# Altium integrated library Diode - Rectifier.IntLib: 777 symbols (part 8 of 12)
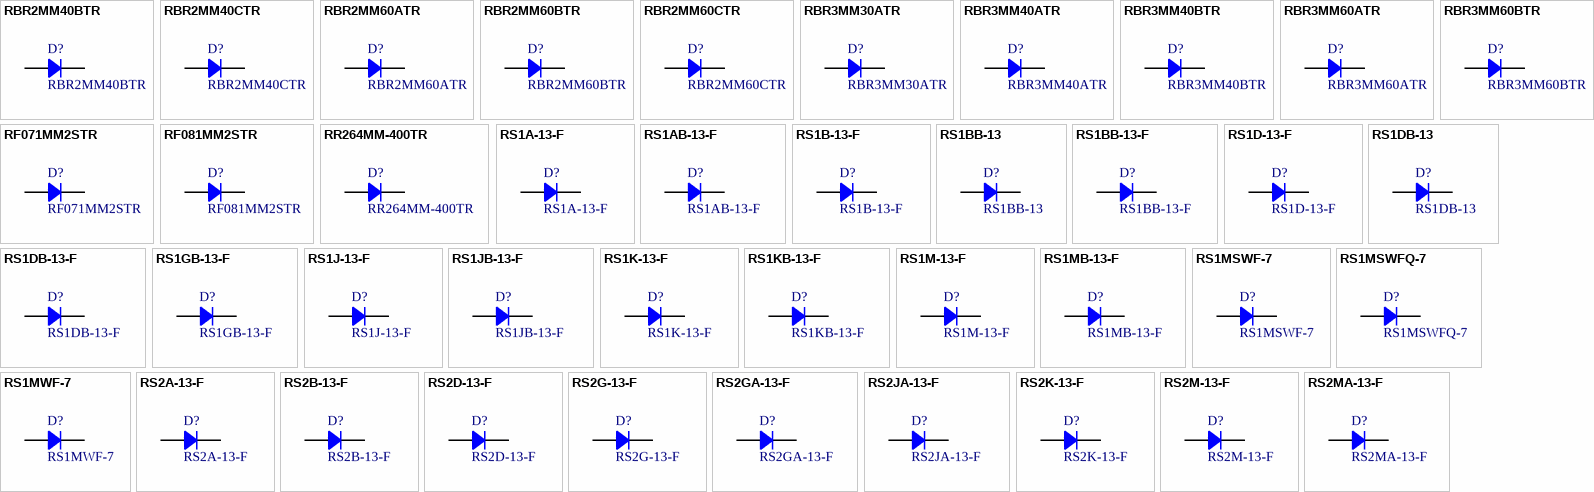
[diagram p26: symbols RBR2MM40BTR to RS2MA-13-F]

## RS1A-13-F
designator D?
DIODE GEN PURP 50V 1A SMA; Manufacturer: Diodes Incorporated; Type: Standard; Current Reverse Leakage @ Vr: 5uA @ 50V; Reverse Recovery Time (trr): 150ns; Voltage Forward (Vf): 1.3V @ 1A; Part Number: RS1A-13-F; PartId: 16347; Supplier 1: Digi-Key; Supplier Part Number 1: RS1A-FDITR-ND; ComponentLink1Description: Datasheet; ComponentLink1URL: http://www.diodes.com/_files/datasheets/ds15002.pdf; ComponentLink2Description: Digi-Key Listing; ComponentLink2URL: https://www.digikey.com/product-detail/en/diodes-incorporated/RS1A-13-F/RS1A-FDITR-ND/751523; Junction Operating Temperature: -65C ~ 150C; Price: 0.072; Device Package: DO-214AC, SMA; Voltage DC Reverse (Vr): 50V; Current Rectified: 1A
footprint DO214AC SMA
pins: 1, 2

## RS1AB-13-F
designator D?
DIODE GEN PURP 50V 1A SMB; Manufacturer: Diodes Incorporated; Type: Standard; Current Reverse Leakage @ Vr: 5uA @ 50V; Reverse Recovery Time (trr): 150ns; Voltage Forward (Vf): 1.3V @ 1A; Part Number: RS1AB-13-F; PartId: 16274; Supplier 1: Digi-Key; Supplier Part Number 1: RS1AB-FDITR-ND; ComponentLink1Description: Datasheet; ComponentLink1URL: http://www.diodes.com/_files/datasheets/ds15002.pdf; ComponentLink2Description: Digi-Key Listing; ComponentLink2URL: https://www.digikey.com/product-detail/en/diodes-incorporated/RS1AB-13-F/RS1AB-FDITR-ND/814456; Junction Operating Temperature: -65C ~ 150C; Price: 0.0864; Device Package: DO-214AA, SMB; Voltage DC Reverse (Vr): 50V; Current Rectified: 1A
footprint DO214AA SMB
pins: 1, 2

## RS1B-13-F
designator D?
DIODE GEN PURP 100V 1A SMA; Manufacturer: Diodes Incorporated; Type: Standard; Current Reverse Leakage @ Vr: 5uA @ 100V; Reverse Recovery Time (trr): 150ns; Voltage Forward (Vf): 1.3V @ 1A; Part Number: RS1B-13-F; PartId: 16320; Supplier 1: Digi-Key; Supplier Part Number 1: RS1B-FDITR-ND; ComponentLink1Description: Datasheet; ComponentLink1URL: http://www.diodes.com/_files/datasheets/ds15002.pdf; ComponentLink2Description: Digi-Key Listing; ComponentLink2URL: https://www.digikey.com/product-detail/en/diodes-incorporated/RS1B-13-F/RS1B-FDITR-ND/717796; Junction Operating Temperature: -65C ~ 150C; Price: 0.072; Device Package: DO-214AC, SMA; Voltage DC Reverse (Vr): 100V; Current Rectified: 1A
footprint DO214AC SMA
pins: 1, 2

## RS1BB-13
designator D?
DIODE GEN PURP 100V 1A SMB; Manufacturer: Diodes Incorporated; Type: Standard; Current Reverse Leakage @ Vr: 5uA @ 100V; Reverse Recovery Time (trr): 150ns; Voltage Forward (Vf): 1.3V @ 1A; Part Number: RS1BB-13; PartId: 16310; Supplier 1: Digi-Key; Supplier Part Number 1: 981-RS1BB-13-CHP; ComponentLink1Description: Datasheet; ComponentLink1URL: //media.digikey.com/pdf/Data%20Sheets/Diodes%20PDFs/RS1.pdf; ComponentLink2Description: Digi-Key Listing; ComponentLink2URL: https://www.digikey.com/product-detail/en/diodes-incorporated/RS1BB-13/981-RS1BB-13-CHP/2348233; Junction Operating Temperature: -65C ~ 150C; Price: 0.1262; Device Package: DO-214AA, SMB; Voltage DC Reverse (Vr): 100V; Current Rectified: 1A
footprint DO214AA SMB
pins: 1, 2

## RS1BB-13-F
designator D?
DIODE GEN PURP 100V 1A SMB; Manufacturer: Diodes Incorporated; Type: Standard; Current Reverse Leakage @ Vr: 5uA @ 100V; Reverse Recovery Time (trr): 150ns; Voltage Forward (Vf): 1.3V @ 1A; Part Number: RS1BB-13-F; PartId: 16286; Supplier 1: Digi-Key; Supplier Part Number 1: RS1BB-FDITR-ND; ComponentLink1Description: Datasheet; ComponentLink1URL: http://www.diodes.com/_files/datasheets/ds15002.pdf; ComponentLink2Description: Digi-Key Listing; ComponentLink2URL: https://www.digikey.com/product-detail/en/diodes-incorporated/RS1BB-13-F/RS1BB-FDITR-ND/814460; Junction Operating Temperature: -65C ~ 150C; Price: 0.1402; Device Package: DO-214AA, SMB; Voltage DC Reverse (Vr): 100V; Current Rectified: 1A
footprint DO214AA SMB
pins: 1, 2

## RS1D-13-F
designator D?
DIODE GEN PURP 200V 1A SMA; Manufacturer: Diodes Incorporated; Type: Standard; Current Reverse Leakage @ Vr: 5uA @ 200V; Reverse Recovery Time (trr): 150ns; Voltage Forward (Vf): 1.3V @ 1A; Part Number: RS1D-13-F; PartId: 16322; Supplier 1: Digi-Key; Supplier Part Number 1: RS1D-FDITR-ND; ComponentLink1Description: Datasheet; ComponentLink1URL: http://www.diodes.com/_files/datasheets/ds15002.pdf; ComponentLink2Description: Digi-Key Listing; ComponentLink2URL: https://www.digikey.com/product-detail/en/diodes-incorporated/RS1D-13-F/RS1D-FDITR-ND/775844; Junction Operating Temperature: -65C ~ 150C; Price: 0.0743; Device Package: DO-214AC, SMA; Voltage DC Reverse (Vr): 200V; Current Rectified: 1A
footprint DO214AC SMA
pins: 1, 2

## RS1DB-13
designator D?
DIODE GEN PURP 200V 1A SMB; Manufacturer: Diodes Incorporated; Type: Standard; Current Reverse Leakage @ Vr: 5uA @ 200V; Reverse Recovery Time (trr): 150ns; Voltage Forward (Vf): 1.3V @ 1A; Part Number: RS1DB-13; PartId: 16311; Supplier 1: Digi-Key; Supplier Part Number 1: 981-RS1DB-13-CHP; ComponentLink1Description: Datasheet; ComponentLink1URL: //media.digikey.com/pdf/Data%20Sheets/Diodes%20PDFs/RS1.pdf; ComponentLink2Description: Digi-Key Listing; ComponentLink2URL: https://www.digikey.com/product-detail/en/diodes-incorporated/RS1DB-13/981-RS1DB-13-CHP/2344483; Junction Operating Temperature: -65C ~ 150C; Price: 0.1395; Device Package: DO-214AA, SMB; Voltage DC Reverse (Vr): 200V; Current Rectified: 1A
footprint DO214AA SMB
pins: 1, 2

## RS1DB-13-F
designator D?
DIODE GEN PURP 200V 1A SMB; Manufacturer: Diodes Incorporated; Type: Standard; Current Reverse Leakage @ Vr: 5uA @ 200V; Reverse Recovery Time (trr): 150ns; Voltage Forward (Vf): 1.3V @ 1A; Part Number: RS1DB-13-F; PartId: 16240; Supplier 1: Digi-Key; Supplier Part Number 1: RS1DB-FDITR-ND; ComponentLink1Description: Datasheet; ComponentLink1URL: http://www.diodes.com/_files/datasheets/ds15002.pdf; ComponentLink2Description: Digi-Key Listing; ComponentLink2URL: https://www.digikey.com/product-detail/en/diodes-incorporated/RS1DB-13-F/RS1DB-FDITR-ND/814459; Junction Operating Temperature: -65C ~ 150C; Price: 0.0882; Device Package: DO-214AA, SMB; Voltage DC Reverse (Vr): 200V; Current Rectified: 1A
footprint DO214AA SMB
pins: 1, 2

## RS1GB-13-F
designator D?
DIODE GEN PURP 400V 1A SMB; Manufacturer: Diodes Incorporated; Type: Standard; Current Reverse Leakage @ Vr: 5uA @ 400V; Reverse Recovery Time (trr): 150ns; Voltage Forward (Vf): 1.3V @ 1A; Part Number: RS1GB-13-F; PartId: 16277; Supplier 1: Digi-Key; Supplier Part Number 1: RS1GB-FDITR-ND; ComponentLink1Description: Datasheet; ComponentLink1URL: http://www.diodes.com/_files/datasheets/ds15002.pdf; ComponentLink2Description: Digi-Key Listing; ComponentLink2URL: https://www.digikey.com/product-detail/en/diodes-incorporated/RS1GB-13-F/RS1GB-FDITR-ND/765419; Junction Operating Temperature: -65C ~ 150C; Price: 0.0936; Device Package: DO-214AA, SMB; Voltage DC Reverse (Vr): 400V; Current Rectified: 1A
footprint DO214AA SMB
pins: 1, 2

## RS1J-13-F
designator D?
DIODE GEN PURP 600V 1A SMA; Manufacturer: Diodes Incorporated; Type: Standard; Current Reverse Leakage @ Vr: 5uA @ 600V; Reverse Recovery Time (trr): 250ns; Voltage Forward (Vf): 1.3V @ 1A; Part Number: RS1J-13-F; PartId: 16321; Supplier 1: Digi-Key; Supplier Part Number 1: RS1J-FDITR-ND; ComponentLink1Description: Datasheet; ComponentLink1URL: http://www.diodes.com/_files/datasheets/ds15002.pdf; ComponentLink2Description: Digi-Key Listing; ComponentLink2URL: https://www.digikey.com/product-detail/en/diodes-incorporated/RS1J-13-F/RS1J-FDITR-ND/749974; Junction Operating Temperature: -65C ~ 150C; Price: 0.072; Device Package: DO-214AC, SMA; Voltage DC Reverse (Vr): 600V; Current Rectified: 1A
footprint DO214AC SMA
pins: 1, 2

## RS1JB-13-F
designator D?
DIODE GEN PURP 600V 1A SMB; Manufacturer: Diodes Incorporated; Type: Standard; Current Reverse Leakage @ Vr: 5uA @ 600V; Reverse Recovery Time (trr): 250ns; Voltage Forward (Vf): 1.3V @ 1A; Part Number: RS1JB-13-F; PartId: 16276; Supplier 1: Digi-Key; Supplier Part Number 1: RS1JB-FDITR-ND; ComponentLink1Description: Datasheet; ComponentLink1URL: http://www.diodes.com/_files/datasheets/ds15002.pdf; ComponentLink2Description: Digi-Key Listing; ComponentLink2URL: https://www.digikey.com/product-detail/en/diodes-incorporated/RS1JB-13-F/RS1JB-FDITR-ND/814458; Junction Operating Temperature: -65C ~ 150C; Price: 0.0936; Device Package: DO-214AA, SMB; Voltage DC Reverse (Vr): 600V; Current Rectified: 1A
footprint DO214AA SMB
pins: 1, 2

## RS1K-13-F
designator D?
DIODE GEN PURP 800V 1A SMA; Manufacturer: Diodes Incorporated; Type: Standard; Current Reverse Leakage @ Vr: 5uA @ 800V; Reverse Recovery Time (trr): 500ns; Voltage Forward (Vf): 1.3V @ 1A; Part Number: RS1K-13-F; PartId: 16354; Supplier 1: Digi-Key; Supplier Part Number 1: RS1K-FDITR-ND; ComponentLink1Description: Datasheet; ComponentLink1URL: http://www.diodes.com/_files/datasheets/ds15002.pdf; ComponentLink2Description: Digi-Key Listing; ComponentLink2URL: https://www.digikey.com/product-detail/en/diodes-incorporated/RS1K-13-F/RS1K-FDITR-ND/749975; Junction Operating Temperature: -65C ~ 150C; Price: 0.0935; Device Package: DO-214AC, SMA; Voltage DC Reverse (Vr): 800V; Current Rectified: 1A
footprint DO214AC SMA
pins: 1, 2

## RS1KB-13-F
designator D?
DIODE GEN PURP 800V 1A SMB; Manufacturer: Diodes Incorporated; Type: Standard; Current Reverse Leakage @ Vr: 5uA @ 800V; Reverse Recovery Time (trr): 500ns; Voltage Forward (Vf): 1.3V @ 1A; Part Number: RS1KB-13-F; PartId: 16300; Supplier 1: Digi-Key; Supplier Part Number 1: RS1KB-FDITR-ND; ComponentLink1Description: Datasheet; ComponentLink1URL: http://www.diodes.com/_files/datasheets/ds15002.pdf; ComponentLink2Description: Digi-Key Listing; ComponentLink2URL: https://www.digikey.com/product-detail/en/diodes-incorporated/RS1KB-13-F/RS1KB-FDITR-ND/814457; Junction Operating Temperature: -65C ~ 150C; Price: 0.1039; Device Package: DO-214AA, SMB; Voltage DC Reverse (Vr): 800V; Current Rectified: 1A
footprint DO214AA SMB
pins: 1, 2

## RS1M-13-F
designator D?
DIODE GEN PURP 1KV 1A SMA; Manufacturer: Diodes Incorporated; Type: Standard; Current Reverse Leakage @ Vr: 5uA @ 1000V; Reverse Recovery Time (trr): 500ns; Voltage DC Reverse (Vr): 1000V (1kV); Voltage Forward (Vf): 1.3V @ 1A; Part Number: RS1M-13-F; PartId: 16326; Supplier 1: Digi-Key; Supplier Part Number 1: RS1M-FDITR-ND; ComponentLink1Description: Datasheet; ComponentLink1URL: http://www.diodes.com/_files/datasheets/ds15002.pdf; ComponentLink2Description: Digi-Key Listing; ComponentLink2URL: https://www.digikey.com/product-detail/en/diodes-incorporated/RS1M-13-F/RS1M-FDITR-ND/775742; Junction Operating Temperature: -65C ~ 150C; Price: 0.0935; Device Package: DO-214AC, SMA; Current Rectified: 1A
footprint DO214AC SMA
pins: 1, 2

## RS1MB-13-F
designator D?
DIODE GEN PURP 1KV 1A SMB; Manufacturer: Diodes Incorporated; Type: Standard; Current Reverse Leakage @ Vr: 5uA @ 1000V; Reverse Recovery Time (trr): 500ns; Voltage DC Reverse (Vr): 1000V (1kV); Voltage Forward (Vf): 1.3V @ 1A; Part Number: RS1MB-13-F; PartId: 16246; Supplier 1: Digi-Key; Supplier Part Number 1: RS1MB-FDITR-ND; ComponentLink1Description: Datasheet; ComponentLink1URL: http://www.diodes.com/_files/datasheets/ds15002.pdf; ComponentLink2Description: Digi-Key Listing; ComponentLink2URL: https://www.digikey.com/product-detail/en/diodes-incorporated/RS1MB-13-F/RS1MB-FDITR-ND/724960; Junction Operating Temperature: -65C ~ 150C; Price: 0.1155; Device Package: DO-214AA, SMB; Current Rectified: 1A
footprint DO214AA SMB
pins: 1, 2

## RS1MSWF-7
designator D?
DIODE RECT STD 1000V 1A SOD123F; Manufacturer: Diodes Incorporated; Type: Standard; Current Reverse Leakage @ Vr: 10uA @ 1000V; Reverse Recovery Time (trr): 500ns; Voltage DC Reverse (Vr): 1000V (1kV); Voltage Forward (Vf): 1.3V @ 1A; Part Number: RS1MSWF-7; PartId: 29274; Supplier 1: Digi-Key; Supplier Part Number 1: RS1MSWF-7DICT-ND; ComponentLink1Description: Datasheet; ComponentLink1URL: http://www.diodes.com/_files/datasheets/RS1MSWF.pdf; ComponentLink2Description: Digi-Key Listing; ComponentLink2URL: https://www.digikey.com/product-detail/en/diodes-incorporated/RS1MSWF-7/RS1MSWF-7DICT-ND/5731845; Junction Operating Temperature: -55C ~ 150C; Price: 0.4; Device Package: SOD-123F; Current Rectified: 1A
footprint SOD123F
pins: 1, 2

## RS1MSWFQ-7
designator D?
DIODE REC FAS 1000V 1A SOD123F; Manufacturer: Diodes Incorporated; Type: Standard; Current Reverse Leakage @ Vr: 10uA @ 1000V; Reverse Recovery Time (trr): 500ns; Voltage DC Reverse (Vr): 1000V (1kV); Voltage Forward (Vf): 1.3V @ 1A; Part Number: RS1MSWFQ-7; PartId: 29246; Supplier 1: Digi-Key; Supplier Part Number 1: RS1MSWFQ-7DICT-ND; ComponentLink1Description: Datasheet; ComponentLink1URL: http://www.diodes.com/_files/datasheets/RS1MSWFQ.pdf; ComponentLink2Description: Digi-Key Listing; ComponentLink2URL: https://www.digikey.com/product-detail/en/diodes-incorporated/RS1MSWFQ-7/RS1MSWFQ-7DICT-ND/5731846; Junction Operating Temperature: -55C ~ 150C; Price: 0.37; Device Package: SOD-123F; Current Rectified: 1A
footprint SOD123F
pins: 1, 2

## RS1MWF-7
designator D?
RECT FAST REC 1000V 1A SOD123F; Manufacturer: Diodes Incorporated; Type: Standard; Current Reverse Leakage @ Vr: 5uA @ 1000V; Reverse Recovery Time (trr): 500ns; Voltage DC Reverse (Vr): 1000V (1kV); Voltage Forward (Vf): 1.3V @ 1A; Part Number: RS1MWF-7; PartId: 29328; Supplier 1: Digi-Key; Supplier Part Number 1: RS1MWF-7DICT-ND; ComponentLink1Description: Datasheet; ComponentLink1URL: http://diodes.com/_files/datasheets/RS1MWF.pdf; ComponentLink2Description: Digi-Key Listing; ComponentLink2URL: https://www.digikey.com/product-detail/en/diodes-incorporated/RS1MWF-7/RS1MWF-7DICT-ND/5235979; Junction Operating Temperature: -55C ~ 150C; Price: 0.43; Device Package: SOD-123F; Current Rectified: 1A
footprint SOD123F
pins: 1, 2

## RS2A-13-F
designator D?
DIODE GEN PURP 50V 1.5A SMB; Manufacturer: Diodes Incorporated; Type: Standard; Current Reverse Leakage @ Vr: 5uA @ 50V; Reverse Recovery Time (trr): 150ns; Voltage Forward (Vf): 1.3V @ 1.5A; Part Number: RS2A-13-F; PartId: 16312; Supplier 1: Digi-Key; Supplier Part Number 1: RS2A-FDITR-ND; ComponentLink1Description: Datasheet; ComponentLink1URL: http://www.diodes.com/_files/datasheets/ds15004.pdf; ComponentLink2Description: Digi-Key Listing; ComponentLink2URL: https://www.digikey.com/product-detail/en/diodes-incorporated/RS2A-13-F/RS2A-FDITR-ND/814455; Junction Operating Temperature: -65C ~ 150C; Price: 0.155; Device Package: DO-214AA, SMB; Voltage DC Reverse (Vr): 50V; Current Rectified: 1.5A
footprint DO214AA SMB
pins: 1, 2

## RS2B-13-F
designator D?
DIODE GEN PURP 100V 1.5A SMB; Manufacturer: Diodes Incorporated; Type: Standard; Current Reverse Leakage @ Vr: 5uA @ 100V; Reverse Recovery Time (trr): 150ns; Voltage Forward (Vf): 1.3V @ 1.5A; Part Number: RS2B-13-F; PartId: 16313; Supplier 1: Digi-Key; Supplier Part Number 1: 1034-RS2B-FDITR-ND; ComponentLink1Description: Datasheet; ComponentLink1URL: http://www.diodes.com/_files/datasheets/ds15004.pdf; ComponentLink2Description: Digi-Key Listing; ComponentLink2URL: https://www.digikey.com/product-detail/en/diodes-incorporated/RS2B-13-F/1034-RS2B-FDITR-ND/5629301; Junction Operating Temperature: -65C ~ 150C; Price: 0.1627; Device Package: DO-214AA, SMB; Voltage DC Reverse (Vr): 100V; Current Rectified: 1.5A
footprint DO214AA SMB
pins: 1, 2

## RS2D-13-F
designator D?
DIODE GEN PURP 200V 1.5A SMB; Manufacturer: Diodes Incorporated; Type: Standard; Current Reverse Leakage @ Vr: 5uA @ 200V; Reverse Recovery Time (trr): 150ns; Voltage Forward (Vf): 1.3V @ 1.5A; Part Number: RS2D-13-F; PartId: 16299; Supplier 1: Digi-Key; Supplier Part Number 1: RS2D-FDITR-ND; ComponentLink1Description: Datasheet; ComponentLink1URL: http://www.diodes.com/_files/datasheets/ds15004.pdf; ComponentLink2Description: Digi-Key Listing; ComponentLink2URL: https://www.digikey.com/product-detail/en/diodes-incorporated/RS2D-13-F/RS2D-FDITR-ND/814452; Junction Operating Temperature: -65C ~ 150C; Price: 0.099; Device Package: DO-214AA, SMB; Voltage DC Reverse (Vr): 200V; Current Rectified: 1.5A
footprint DO214AA SMB
pins: 1, 2

## RS2G-13-F
designator D?
DIODE GEN PURP 400V 1.5A SMB; Manufacturer: Diodes Incorporated; Type: Standard; Current Reverse Leakage @ Vr: 5uA @ 400V; Reverse Recovery Time (trr): 150ns; Voltage Forward (Vf): 1.3V @ 1.5A; Part Number: RS2G-13-F; PartId: 16303; Supplier 1: Digi-Key; Supplier Part Number 1: RS2G-FDITR-ND; ComponentLink1Description: Datasheet; ComponentLink1URL: http://www.diodes.com/_files/datasheets/ds15004.pdf; ComponentLink2Description: Digi-Key Listing; ComponentLink2URL: https://www.digikey.com/product-detail/en/diodes-incorporated/RS2G-13-F/RS2G-FDITR-ND/814450; Junction Operating Temperature: -65C ~ 150C; Price: 0.1782; Device Package: DO-214AA, SMB; Voltage DC Reverse (Vr): 400V; Current Rectified: 1.5A
footprint DO214AA SMB
pins: 1, 2

## RS2GA-13-F
designator D?
DIODE GEN PURP 400V 1.5A SMA; Manufacturer: Diodes Incorporated; Type: Standard; Current Reverse Leakage @ Vr: 5uA @ 400V; Reverse Recovery Time (trr): 150ns; Voltage Forward (Vf): 1.3V @ 1.5A; Part Number: RS2GA-13-F; PartId: 16360; Supplier 1: Digi-Key; Supplier Part Number 1: RS2GA-FDITR-ND; ComponentLink1Description: Datasheet; ComponentLink1URL: http://www.diodes.com/_files/datasheets/ds15004.pdf; ComponentLink2Description: Digi-Key Listing; ComponentLink2URL: https://www.digikey.com/product-detail/en/diodes-incorporated/RS2GA-13-F/RS2GA-FDITR-ND/814448; Junction Operating Temperature: -65C ~ 150C; Price: 0.1667; Device Package: DO-214AC, SMA; Voltage DC Reverse (Vr): 400V; Current Rectified: 1.5A
footprint DO214AC SMA
pins: 1, 2

## RS2JA-13-F
designator D?
DIODE GEN PURP 600V 1.5A SMA; Manufacturer: Diodes Incorporated; Type: Standard; Current Reverse Leakage @ Vr: 5uA @ 600V; Reverse Recovery Time (trr): 250ns; Voltage Forward (Vf): 1.3V @ 1.5A; Part Number: RS2JA-13-F; PartId: 16356; Supplier 1: Digi-Key; Supplier Part Number 1: RS2JA-FDITR-ND; ComponentLink1Description: Datasheet; ComponentLink1URL: http://www.diodes.com/_files/datasheets/ds15004.pdf; ComponentLink2Description: Digi-Key Listing; ComponentLink2URL: https://www.digikey.com/product-detail/en/diodes-incorporated/RS2JA-13-F/RS2JA-FDITR-ND/814417; Junction Operating Temperature: -65C ~ 150C; Price: 0.1085; Device Package: DO-214AC, SMA; Voltage DC Reverse (Vr): 600V; Current Rectified: 1.5A
footprint DO214AC SMA
pins: 1, 2

## RS2K-13-F
designator D?
DIODE GEN PURP 800V 1.5A SMB; Manufacturer: Diodes Incorporated; Type: Standard; Current Reverse Leakage @ Vr: 5uA @ 800V; Reverse Recovery Time (trr): 500ns; Voltage Forward (Vf): 1.3V @ 1.5A; Part Number: RS2K-13-F; PartId: 16304; Supplier 1: Digi-Key; Supplier Part Number 1: RS2K-FDITR-ND; ComponentLink1Description: Datasheet; ComponentLink1URL: http://www.diodes.com/_files/datasheets/ds15004.pdf; ComponentLink2Description: Digi-Key Listing; ComponentLink2URL: https://www.digikey.com/product-detail/en/diodes-incorporated/RS2K-13-F/RS2K-FDITR-ND/814430; Junction Operating Temperature: -65C ~ 150C; Price: 0.2015; Device Package: DO-214AA, SMB; Voltage DC Reverse (Vr): 800V; Current Rectified: 1.5A
footprint DO214AA SMB
pins: 1, 2

## RS2M-13-F
designator D?
DIODE GEN PURP 1KV 1.5A SMB; Manufacturer: Diodes Incorporated; Type: Standard; Current Reverse Leakage @ Vr: 5uA @ 1000V; Reverse Recovery Time (trr): 500ns; Voltage DC Reverse (Vr): 1000V (1kV); Voltage Forward (Vf): 1.3V @ 1.5A; Part Number: RS2M-13-F; PartId: 16305; Supplier 1: Digi-Key; Supplier Part Number 1: RS2M-FDITR-ND; ComponentLink1Description: Datasheet; ComponentLink1URL: http://www.diodes.com/_files/datasheets/ds15004.pdf; ComponentLink2Description: Digi-Key Listing; ComponentLink2URL: https://www.digikey.com/product-detail/en/diodes-incorporated/RS2M-13-F/RS2M-FDITR-ND/765420; Junction Operating Temperature: -65C ~ 150C; Price: 0.217; Device Package: DO-214AA, SMB; Current Rectified: 1.5A
footprint DO214AA SMB
pins: 1, 2

## RS2MA-13-F
designator D?
DIODE GEN PURP 1KV 1.5A SMA; Manufacturer: Diodes Incorporated; Type: Standard; Current Reverse Leakage @ Vr: 5uA @ 1000V; Reverse Recovery Time (trr): 500ns; Voltage DC Reverse (Vr): 1000V (1kV); Voltage Forward (Vf): 1.3V @ 1.5A; Part Number: RS2MA-13-F; PartId: 16357; Supplier 1: Digi-Key; Supplier Part Number 1: RS2MA-FDITR-ND; ComponentLink1Description: Datasheet; ComponentLink1URL: http://www.diodes.com/_files/datasheets/ds15004.pdf; ComponentLink2Description: Digi-Key Listing; ComponentLink2URL: https://www.digikey.com/product-detail/en/diodes-incorporated/RS2MA-13-F/RS2MA-FDITR-ND/724961; Junction Operating Temperature: -65C ~ 150C; Price: 0.1305; Device Package: DO-214AC, SMA; Current Rectified: 1.5A
footprint DO214AC SMA
pins: 1, 2

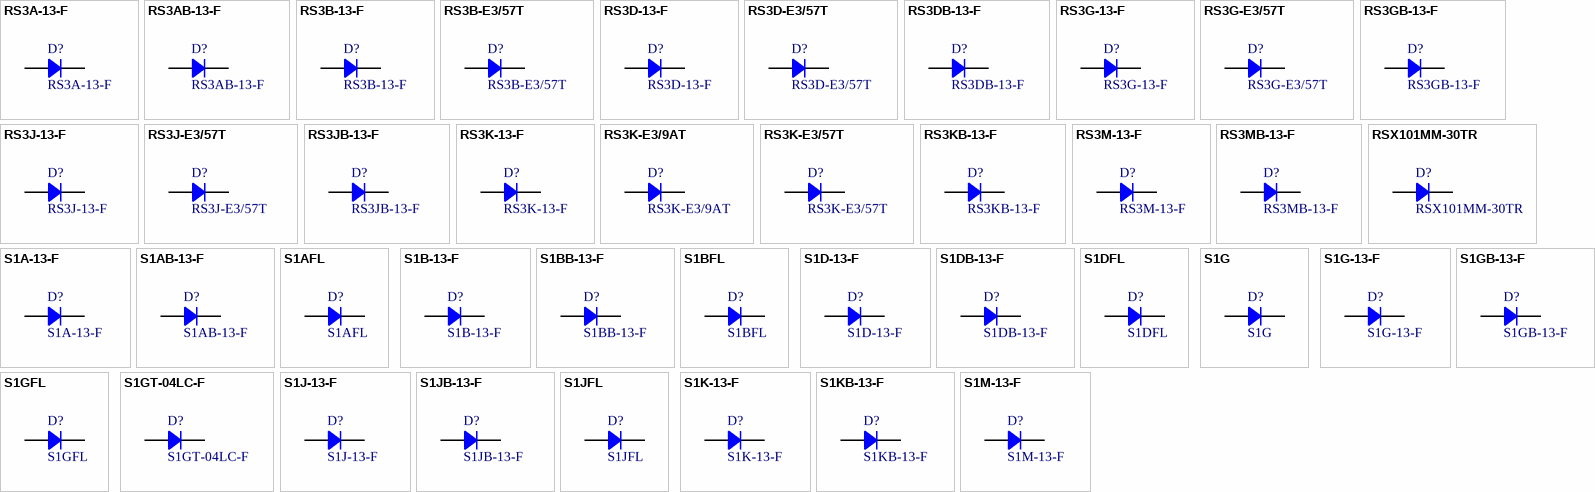
[diagram p12: symbols RS3A-13-F to S1M-13-F]

## RS3A-13-F
designator D?
DIODE GEN PURP 50V 3A SMC; Manufacturer: Diodes Incorporated; Type: Standard; Current Reverse Leakage @ Vr: 5uA @ 50V; Reverse Recovery Time (trr): 150ns; Voltage Forward (Vf): 1.3V @ 3A; Part Number: RS3A-13-F; PartId: 16220; Supplier 1: Digi-Key; Supplier Part Number 1: RS3A-FDITR-ND; ComponentLink1Description: Datasheet; ComponentLink1URL: //media.digikey.com/pdf/Data%20Sheets/Diodes%20PDFs/RS3A_B~RS3M_B.pdf; ComponentLink2Description: Digi-Key Listing; ComponentLink2URL: https://www.digikey.com/product-detail/en/diodes-incorporated/RS3A-13-F/RS3A-FDITR-ND/724962; Junction Operating Temperature: -65C ~ 150C; Price: 0.1705; Device Package: DO-214AB, SMC; Voltage DC Reverse (Vr): 50V; Current Rectified: 3A
footprint DO214AB SMC
pins: 1, 2

## RS3AB-13-F
designator D?
DIODE GEN PURP 50V 3A SMB; Manufacturer: Diodes Incorporated; Type: Standard; Current Reverse Leakage @ Vr: 5uA @ 50V; Reverse Recovery Time (trr): 150ns; Voltage Forward (Vf): 1.3V @ 3A; Part Number: RS3AB-13-F; PartId: 16257; Supplier 1: Digi-Key; Supplier Part Number 1: RS3AB-FDITR-ND; ComponentLink1Description: Datasheet; ComponentLink1URL: //media.digikey.com/pdf/Data%20Sheets/Diodes%20PDFs/RS3A_B~RS3M_B.pdf; ComponentLink2Description: Digi-Key Listing; ComponentLink2URL: https://www.digikey.com/product-detail/en/diodes-incorporated/RS3AB-13-F/RS3AB-FDITR-ND/749976; Junction Operating Temperature: -65C ~ 150C; Price: 0.155; Device Package: DO-214AA, SMB; Voltage DC Reverse (Vr): 50V; Current Rectified: 3A
footprint DO214AA SMB
pins: 1, 2

## RS3B-13-F
designator D?
DIODE GEN PURP 100V 3A SMC; Manufacturer: Diodes Incorporated; Type: Standard; Current Reverse Leakage @ Vr: 5uA @ 100V; Reverse Recovery Time (trr): 150ns; Voltage Forward (Vf): 1.3V @ 3A; Part Number: RS3B-13-F; PartId: 16219; Supplier 1: Digi-Key; Supplier Part Number 1: RS3B-FDITR-ND; ComponentLink1Description: Datasheet; ComponentLink1URL: //media.digikey.com/pdf/Data%20Sheets/Diodes%20PDFs/RS3A_B~RS3M_B.pdf; ComponentLink2Description: Digi-Key Listing; ComponentLink2URL: https://www.digikey.com/product-detail/en/diodes-incorporated/RS3B-13-F/RS3B-FDITR-ND/814411; Junction Operating Temperature: -65C ~ 150C; Price: 0.1705; Device Package: DO-214AB, SMC; Voltage DC Reverse (Vr): 100V; Current Rectified: 3A
footprint DO214AB SMC
pins: 1, 2

## RS3B-E3/57T
designator D?
DIODE GEN PURP 100V 3A DO214AB; Manufacturer: Vishay Semiconductor Diodes Division; Type: Standard; Current Reverse Leakage @ Vr: 10uA @ 100V; Reverse Recovery Time (trr): 150ns; Voltage Forward (Vf): 1.3V @ 2.5A; Part Number: RS3B-E3/57T; PartId: 27902; Supplier 1: Digi-Key; Supplier Part Number 1: RS3B-E3/57TGICT-ND; ComponentLink1Description: Datasheet; ComponentLink1URL: http://www.vishay.com/docs/88709/rs3a.pdf; ComponentLink2Description: Digi-Key Listing; ComponentLink2URL: https://www.digikey.com/product-detail/en/vishay-semiconductor-diodes-division/RS3B-E3-57T/RS3B-E3-57TGICT-ND/1091592; Junction Operating Temperature: -55C ~ 150C; Price: 0.66; Device Package: DO-214AB, SMC; Voltage DC Reverse (Vr): 100V; Current Rectified: 3A
footprint ST DO214AB SMC
pins: 1, 2

## RS3D-13-F
designator D?
DIODE GEN PURP 200V 3A SMC; Manufacturer: Diodes Incorporated; Type: Standard; Current Reverse Leakage @ Vr: 5uA @ 200V; Reverse Recovery Time (trr): 150ns; Voltage Forward (Vf): 1.3V @ 3A; Part Number: RS3D-13-F; PartId: 16224; Supplier 1: Digi-Key; Supplier Part Number 1: RS3D-FDITR-ND; ComponentLink1Description: Datasheet; ComponentLink1URL: //media.digikey.com/pdf/Data%20Sheets/Diodes%20PDFs/RS3A_B~RS3M_B.pdf; ComponentLink2Description: Digi-Key Listing; ComponentLink2URL: https://www.digikey.com/product-detail/en/diodes-incorporated/RS3D-13-F/RS3D-FDITR-ND/814407; Junction Operating Temperature: -65C ~ 150C; Price: 0.186; Device Package: DO-214AB, SMC; Voltage DC Reverse (Vr): 200V; Current Rectified: 3A
footprint DO214AB SMC
pins: 1, 2

## RS3D-E3/57T
designator D?
DIODE GEN PURP 200V 3A DO214AB; Manufacturer: Vishay Semiconductor Diodes Division; Type: Standard; Current Reverse Leakage @ Vr: 10uA @ 200V; Reverse Recovery Time (trr): 150ns; Voltage Forward (Vf): 1.3V @ 2.5A; Part Number: RS3D-E3/57T; PartId: 27784; Supplier 1: Digi-Key; Supplier Part Number 1: RS3D-E3/57TGICT-ND; ComponentLink1Description: Datasheet; ComponentLink1URL: http://www.vishay.com/docs/88709/rs3a.pdf; ComponentLink2Description: Digi-Key Listing; ComponentLink2URL: https://www.digikey.com/product-detail/en/vishay-semiconductor-diodes-division/RS3D-E3-57T/RS3D-E3-57TGICT-ND/1091593; Junction Operating Temperature: -55C ~ 150C; Price: 0.66; Device Package: DO-214AB, SMC; Voltage DC Reverse (Vr): 200V; Current Rectified: 3A
footprint ST DO214AB SMC
pins: 1, 2

## RS3DB-13-F
designator D?
DIODE GEN PURP 200V 3A SMB; Manufacturer: Diodes Incorporated; Type: Standard; Current Reverse Leakage @ Vr: 5uA @ 200V; Reverse Recovery Time (trr): 150ns; Voltage Forward (Vf): 1.3V @ 3A; Part Number: RS3DB-13-F; PartId: 16308; Supplier 1: Digi-Key; Supplier Part Number 1: RS3DB-FDITR-ND; ComponentLink1Description: Datasheet; ComponentLink1URL: //media.digikey.com/pdf/Data%20Sheets/Diodes%20PDFs/RS3A_B~RS3M_B.pdf; ComponentLink2Description: Digi-Key Listing; ComponentLink2URL: https://www.digikey.com/product-detail/en/diodes-incorporated/RS3DB-13-F/RS3DB-FDITR-ND/814410; Junction Operating Temperature: -65C ~ 150C; Price: 0.3335; Device Package: DO-214AA, SMB; Voltage DC Reverse (Vr): 200V; Current Rectified: 3A
footprint DO214AA SMB
pins: 1, 2

## RS3G-13-F
designator D?
DIODE GEN PURP 400V 3A SMC; Manufacturer: Diodes Incorporated; Type: Standard; Current Reverse Leakage @ Vr: 5uA @ 400V; Reverse Recovery Time (trr): 150ns; Voltage Forward (Vf): 1.3V @ 3A; Part Number: RS3G-13-F; PartId: 16234; Supplier 1: Digi-Key; Supplier Part Number 1: RS3G-FDITR-ND; ComponentLink1Description: Datasheet; ComponentLink1URL: //media.digikey.com/pdf/Data%20Sheets/Diodes%20PDFs/RS3A_B~RS3M_B.pdf; ComponentLink2Description: Digi-Key Listing; ComponentLink2URL: https://www.digikey.com/product-detail/en/diodes-incorporated/RS3G-13-F/RS3G-FDITR-ND/814402; Junction Operating Temperature: -65C ~ 150C; Price: 0.348; Device Package: DO-214AB, SMC; Voltage DC Reverse (Vr): 400V; Current Rectified: 3A
footprint DO214AB SMC
pins: 1, 2

## RS3G-E3/57T
designator D?
DIODE GEN PURP 400V 3A DO214AB; Manufacturer: Vishay Semiconductor Diodes Division; Type: Standard; Current Reverse Leakage @ Vr: 10uA @ 400V; Reverse Recovery Time (trr): 150ns; Voltage Forward (Vf): 1.3V @ 2.5A; Part Number: RS3G-E3/57T; PartId: 27855; Supplier 1: Digi-Key; Supplier Part Number 1: RS3G-E3/57TGICT-ND; ComponentLink1Description: Datasheet; ComponentLink1URL: http://www.vishay.com/docs/88709/rs3a.pdf; ComponentLink2Description: Digi-Key Listing; ComponentLink2URL: https://www.digikey.com/product-detail/en/vishay-semiconductor-diodes-division/RS3G-E3-57T/RS3G-E3-57TGICT-ND/1091594; Junction Operating Temperature: -55C ~ 150C; Price: 0.66; Device Package: DO-214AB, SMC; Voltage DC Reverse (Vr): 400V; Current Rectified: 3A
footprint ST DO214AB SMC
pins: 1, 2

## RS3GB-13-F
designator D?
DIODE GEN PURP 400V 3A SMB; Manufacturer: Diodes Incorporated; Type: Standard; Current Reverse Leakage @ Vr: 5uA @ 400V; Reverse Recovery Time (trr): 150ns; Voltage Forward (Vf): 1.3V @ 3A; Part Number: RS3GB-13-F; PartId: 16287; Supplier 1: Digi-Key; Supplier Part Number 1: RS3GB-FDITR-ND; ComponentLink1Description: Datasheet; ComponentLink1URL: //media.digikey.com/pdf/Data%20Sheets/Diodes%20PDFs/RS3A_B~RS3M_B.pdf; ComponentLink2Description: Digi-Key Listing; ComponentLink2URL: https://www.digikey.com/product-detail/en/diodes-incorporated/RS3GB-13-F/RS3GB-FDITR-ND/814408; Junction Operating Temperature: -65C ~ 150C; Price: 0.155; Device Package: DO-214AA, SMB; Voltage DC Reverse (Vr): 400V; Current Rectified: 3A
footprint DO214AA SMB
pins: 1, 2

## RS3J-13-F
designator D?
DIODE GEN PURP 600V 3A SMC; Manufacturer: Diodes Incorporated; Type: Standard; Current Reverse Leakage @ Vr: 5uA @ 600V; Reverse Recovery Time (trr): 250ns; Voltage Forward (Vf): 1.3V @ 3A; Part Number: RS3J-13-F; PartId: 27846; Supplier 1: Digi-Key; Supplier Part Number 1: RS3J-FDICT-ND; ComponentLink1Description: Datasheet; ComponentLink1URL: //media.digikey.com/pdf/Data%20Sheets/Diodes%20PDFs/RS3A_B~RS3M_B.pdf; ComponentLink2Description: Digi-Key Listing; ComponentLink2URL: https://www.digikey.com/product-detail/en/diodes-incorporated/RS3J-13-F/RS3J-FDICT-ND/815930; Junction Operating Temperature: -65C ~ 150C; Price: 0.59; Device Package: DO-214AB, SMC; Voltage DC Reverse (Vr): 600V; Current Rectified: 3A
footprint ST DO214AB SMC
pins: 1, 2

## RS3J-E3/57T
designator D?
DIODE GEN PURP 600V 3A DO214AB; Manufacturer: Vishay Semiconductor Diodes Division; Type: Standard; Current Reverse Leakage @ Vr: 10uA @ 600V; Reverse Recovery Time (trr): 250ns; Voltage Forward (Vf): 1.3V @ 2.5A; Part Number: RS3J-E3/57T; PartId: 27856; Supplier 1: Digi-Key; Supplier Part Number 1: RS3J-E3/57TGICT-ND; ComponentLink1Description: Datasheet; ComponentLink1URL: http://www.vishay.com/docs/88709/rs3a.pdf; ComponentLink2Description: Digi-Key Listing; ComponentLink2URL: https://www.digikey.com/product-detail/en/vishay-semiconductor-diodes-division/RS3J-E3-57T/RS3J-E3-57TGICT-ND/1091595; Junction Operating Temperature: -55C ~ 150C; Price: 0.66; Device Package: DO-214AB, SMC; Voltage DC Reverse (Vr): 600V; Current Rectified: 3A
footprint ST DO214AB SMC
pins: 1, 2

## RS3JB-13-F
designator D?
DIODE GEN PURP 600V 3A SMB; Manufacturer: Diodes Incorporated; Type: Standard; Current Reverse Leakage @ Vr: 5uA @ 600V; Reverse Recovery Time (trr): 250ns; Voltage Forward (Vf): 1.3V @ 3A; Part Number: RS3JB-13-F; PartId: 16296; Supplier 1: Digi-Key; Supplier Part Number 1: RS3JB-FDITR-ND; ComponentLink1Description: Datasheet; ComponentLink1URL: //media.digikey.com/pdf/Data%20Sheets/Diodes%20PDFs/RS3A_B~RS3M_B.pdf; ComponentLink2Description: Digi-Key Listing; ComponentLink2URL: https://www.digikey.com/product-detail/en/diodes-incorporated/RS3JB-13-F/RS3JB-FDITR-ND/725049; Junction Operating Temperature: -65C ~ 150C; Price: 0.378; Device Package: DO-214AA, SMB; Voltage DC Reverse (Vr): 600V; Current Rectified: 3A
footprint DO214AA SMB
pins: 1, 2

## RS3K-13-F
designator D?
DIODE GEN PURP 800V 3A SMC; Manufacturer: Diodes Incorporated; Type: Standard; Current Reverse Leakage @ Vr: 5uA @ 800V; Reverse Recovery Time (trr): 500ns; Voltage Forward (Vf): 1.3V @ 3A; Part Number: RS3K-13-F; PartId: 16225; Supplier 1: Digi-Key; Supplier Part Number 1: RS3K-FDITR-ND; ComponentLink1Description: Datasheet; ComponentLink1URL: //media.digikey.com/pdf/Data%20Sheets/Diodes%20PDFs/RS3A_B~RS3M_B.pdf; ComponentLink2Description: Digi-Key Listing; ComponentLink2URL: https://www.digikey.com/product-detail/en/diodes-incorporated/RS3K-13-F/RS3K-FDITR-ND/814404; Junction Operating Temperature: -65C ~ 150C; Price: 0.217; Device Package: DO-214AB, SMC; Voltage DC Reverse (Vr): 800V; Current Rectified: 3A
footprint DO214AB SMC
pins: 1, 2

## RS3K-E3/9AT
designator D?
DIODE GEN PURP 800V 3A DO214AB; Manufacturer: Vishay Semiconductor Diodes Division; Type: Standard; Current Reverse Leakage @ Vr: 10uA @ 800V; Reverse Recovery Time (trr): 500ns; Voltage Forward (Vf): 1.3V @ 2.5A; Part Number: RS3K-E3/9AT; PartId: 27853; Supplier 1: Digi-Key; Supplier Part Number 1: RS3K-E3/9ATGICT-ND; ComponentLink1Description: Datasheet; ComponentLink1URL: http://www.vishay.com/docs/88709/rs3a.pdf; ComponentLink2Description: Digi-Key Listing; ComponentLink2URL: https://www.digikey.com/product-detail/en/vishay-semiconductor-diodes-division/RS3K-E3-9AT/RS3K-E3-9ATGICT-ND/3847562; Junction Operating Temperature: -55C ~ 150C; Price: 0.66; Device Package: DO-214AB, SMC; Voltage DC Reverse (Vr): 800V; Current Rectified: 3A
footprint ST DO214AB SMC
pins: 1, 2

## RS3K-E3/57T
designator D?
DIODE GEN PURP 800V 3A DO214AB; Manufacturer: Vishay Semiconductor Diodes Division; Type: Standard; Current Reverse Leakage @ Vr: 10uA @ 800V; Reverse Recovery Time (trr): 500ns; Voltage Forward (Vf): 1.3V @ 2.5A; Part Number: RS3K-E3/57T; PartId: 27785; Supplier 1: Digi-Key; Supplier Part Number 1: RS3K-E3/57TGICT-ND; ComponentLink1Description: Datasheet; ComponentLink1URL: http://www.vishay.com/docs/88709/rs3a.pdf; ComponentLink2Description: Digi-Key Listing; ComponentLink2URL: https://www.digikey.com/product-detail/en/vishay-semiconductor-diodes-division/RS3K-E3-57T/RS3K-E3-57TGICT-ND/3025908; Junction Operating Temperature: -55C ~ 150C; Price: 0.66; Device Package: DO-214AB, SMC; Voltage DC Reverse (Vr): 800V; Current Rectified: 3A
footprint ST DO214AB SMC
pins: 1, 2

## RS3KB-13-F
designator D?
DIODE GEN PURP 800V 3A SMB; Manufacturer: Diodes Incorporated; Type: Standard; Current Reverse Leakage @ Vr: 5uA @ 800V; Reverse Recovery Time (trr): 500ns; Voltage Forward (Vf): 1.3V @ 3A; Part Number: RS3KB-13-F; PartId: 16293; Supplier 1: Digi-Key; Supplier Part Number 1: RS3KB-FDITR-ND; ComponentLink1Description: Datasheet; ComponentLink1URL: //media.digikey.com/pdf/Data%20Sheets/Diodes%20PDFs/RS3A_B~RS3M_B.pdf; ComponentLink2Description: Digi-Key Listing; ComponentLink2URL: https://www.digikey.com/product-detail/en/diodes-incorporated/RS3KB-13-F/RS3KB-FDITR-ND/814405; Junction Operating Temperature: -65C ~ 150C; Price: 0.232; Device Package: DO-214AA, SMB; Voltage DC Reverse (Vr): 800V; Current Rectified: 3A
footprint DO214AA SMB
pins: 1, 2

## RS3M-13-F
designator D?
DIODE GEN PURP 1KV 3A SMC; Manufacturer: Diodes Incorporated; Type: Standard; Current Reverse Leakage @ Vr: 5uA @ 1000V; Reverse Recovery Time (trr): 500ns; Voltage DC Reverse (Vr): 1000V (1kV); Voltage Forward (Vf): 1.3V @ 3A; Part Number: RS3M-13-F; PartId: 16206; Supplier 1: Digi-Key; Supplier Part Number 1: RS3M-FDITR-ND; ComponentLink1Description: Datasheet; ComponentLink1URL: //media.digikey.com/pdf/Data%20Sheets/Diodes%20PDFs/RS3A_B~RS3M_B.pdf; ComponentLink2Description: Digi-Key Listing; ComponentLink2URL: https://www.digikey.com/product-detail/en/diodes-incorporated/RS3M-13-F/RS3M-FDITR-ND/724963; Junction Operating Temperature: -65C ~ 150C; Price: 0.2175; Device Package: DO-214AB, SMC; Current Rectified: 3A
footprint DO214AB SMC
pins: 1, 2

## RS3MB-13-F
designator D?
DIODE GEN PURP 1KV 3A SMB; Manufacturer: Diodes Incorporated; Type: Standard; Current Reverse Leakage @ Vr: 5uA @ 1000V; Reverse Recovery Time (trr): 500ns; Voltage DC Reverse (Vr): 1000V (1kV); Voltage Forward (Vf): 1.3V @ 3A; Part Number: RS3MB-13-F; PartId: 16260; Supplier 1: Digi-Key; Supplier Part Number 1: RS3MB-FDITR-ND; ComponentLink1Description: Datasheet; ComponentLink1URL: //media.digikey.com/pdf/Data%20Sheets/Diodes%20PDFs/RS3A_B~RS3M_B.pdf; ComponentLink2Description: Digi-Key Listing; ComponentLink2URL: https://www.digikey.com/product-detail/en/diodes-incorporated/RS3MB-13-F/RS3MB-FDITR-ND/804882; Junction Operating Temperature: -65C ~ 150C; Price: 0.217; Device Package: DO-214AA, SMB; Current Rectified: 3A
footprint DO214AA SMB
pins: 1, 2

## RSX101MM-30TR
designator D?
DIODE SCHOTTKY 30V 1A PMDU; Manufacturer: Rohm Semiconductor; Current Reverse Leakage @ Vr: 200uA @ 40V; Voltage Forward (Vf): 390mV @ 1A; Part Number: RSX101MM-30TR; PartId: 29294; Supplier 1: Digi-Key; Supplier Part Number 1: RSX101MM-30CT-ND; ComponentLink1Description: Datasheet; ComponentLink1URL: http://rohmfs.rohm.com/en/products/databook/datasheet/discrete/diode/schottky_barrier/rsx101mm-30.pdf; ComponentLink2Description: Digi-Key Listing; ComponentLink2URL: https://www.digikey.com/product-detail/en/rohm-semiconductor/RSX101MM-30TR/RSX101MM-30CT-ND/5001887; Junction Operating Temperature: 150C (Max); Price: 0.48; Type: Schottky; Device Package: SOD-123F; Voltage DC Reverse (Vr): 30V; Current Rectified: 1A
footprint SOD123F
pins: 1, 2

## S1A-13-F
designator D?
DIODE GEN PURP 50V 1A SMA; Manufacturer: Diodes Incorporated; Type: Surface Mount; Current Reverse Leakage @ Vr: 5uA @ 50V; Reverse Recovery Time (trr): 3us; Voltage Forward (Vf): 1.1V @ 1A; Part Number: S1A-13-F; PartId: 7118; Supplier 1: Digi-Key; Supplier Part Number 1: S1A-FDITR-ND; ComponentLink1Description: Datasheet; ComponentLink1URL: http://www.diodes.com/_files/datasheets/ds16003.pdf; ComponentLink2Description: Digi-Key Listing; ComponentLink2URL: http://www.digikey.ca/product-detail/en/S1A-13-F/S1A-FDITR-ND/749977; Junction Operating Temperature: -65C ~ 150C; Price: 0.0516; Device Package: DO-214AC, SMA; Voltage DC Reverse (Vr): 50V; Current Rectified: 1A
footprint DO214AC SMA
pins: 1, 2

## S1AB-13-F
designator D?
DIODE GEN PURP 50V 1A SMB; Manufacturer: Diodes Incorporated; Type: Standard; Current Reverse Leakage @ Vr: 5uA @ 50V; Reverse Recovery Time (trr): 3us; Voltage Forward (Vf): 1.1V @ 1A; Part Number: S1AB-13-F; PartId: 16265; Supplier 1: Digi-Key; Supplier Part Number 1: S1AB-FDITR-ND; ComponentLink1Description: Datasheet; ComponentLink1URL: http://www.diodes.com/_files/datasheets/ds16003.pdf; ComponentLink2Description: Digi-Key Listing; ComponentLink2URL: https://www.digikey.com/product-detail/en/diodes-incorporated/S1AB-13-F/S1AB-FDITR-ND/751512; Junction Operating Temperature: -65C ~ 150C; Price: 0.0552; Device Package: DO-214AA, SMB; Voltage DC Reverse (Vr): 50V; Current Rectified: 1A
footprint DO214AA SMB
pins: 1, 2

## S1AFL
designator D?
DIODE GP 50V 1A SOD123F; Manufacturer: Fairchild/ON Semiconductor; Type: Standard; Current Reverse Leakage @ Vr: 1uA @ 50V; Reverse Recovery Time (trr): 2us; Voltage Forward (Vf): 1.1V @ 1A; Part Number: S1AFL; PartId: 29264; Supplier 1: Digi-Key; Supplier Part Number 1: S1AFLCT-ND; ComponentLink1Description: Datasheet; ComponentLink1URL: https://www.fairchildsemi.com/datasheets/S1/S1AFL.pdf; ComponentLink2Description: Digi-Key Listing; ComponentLink2URL: https://www.digikey.com/product-detail/en/fairchild-on-semiconductor/S1AFL/S1AFLCT-ND/5305085; Junction Operating Temperature: -55C ~ 150C; Price: 0.38; Device Package: SOD-123F; Voltage DC Reverse (Vr): 50V; Current Rectified: 1A
footprint SOD123F
pins: 1, 2

## S1B-13-F
designator D?
DIODE GEN PURP 100V 1A SMA; Manufacturer: Diodes Incorporated; Type: Surface Mount; Current Reverse Leakage @ Vr: 5uA @ 100V; Reverse Recovery Time (trr): 3us; Voltage Forward (Vf): 1.1V @ 1A; Part Number: S1B-13-F; PartId: 7117; Supplier 1: Digi-Key; Supplier Part Number 1: S1B-FDITR-ND; ComponentLink1Description: Datasheet; ComponentLink1URL: http://www.diodes.com/_files/datasheets/ds16003.pdf; ComponentLink2Description: Digi-Key Listing; ComponentLink2URL: http://www.digikey.ca/product-detail/en/S1B-13-F/S1B-FDITR-ND/725026; Junction Operating Temperature: -65C ~ 150C; Price: 0.0516; Device Package: DO-214AC, SMA; Voltage DC Reverse (Vr): 100V; Current Rectified: 1A
footprint DO214AC SMA
pins: 1, 2

## S1BB-13-F
designator D?
DIODE GEN PURP 100V 1A SMB; Manufacturer: Diodes Incorporated; Type: Standard; Current Reverse Leakage @ Vr: 5uA @ 100V; Reverse Recovery Time (trr): 3us; Voltage Forward (Vf): 1.1V @ 1A; Part Number: S1BB-13-F; PartId: 16266; Supplier 1: Digi-Key; Supplier Part Number 1: S1BB-FDITR-ND; ComponentLink1Description: Datasheet; ComponentLink1URL: http://www.diodes.com/_files/datasheets/ds16003.pdf; ComponentLink2Description: Digi-Key Listing; ComponentLink2URL: https://www.digikey.com/product-detail/en/diodes-incorporated/S1BB-13-F/S1BB-FDITR-ND/814403; Junction Operating Temperature: -65C ~ 150C; Price: 0.0575; Device Package: DO-214AA, SMB; Voltage DC Reverse (Vr): 100V; Current Rectified: 1A
footprint DO214AA SMB
pins: 1, 2

## S1BFL
designator D?
DIODE GP 100V 1A SOD123F; Manufacturer: Fairchild/ON Semiconductor; Type: Standard; Current Reverse Leakage @ Vr: 1uA @ 100V; Reverse Recovery Time (trr): 2us; Voltage Forward (Vf): 1.1V @ 1A; Part Number: S1BFL; PartId: 29267; Supplier 1: Digi-Key; Supplier Part Number 1: S1BFLCT-ND; ComponentLink1Description: Datasheet; ComponentLink1URL: https://www.fairchildsemi.com/datasheets/S1/S1AFL.pdf; ComponentLink2Description: Digi-Key Listing; ComponentLink2URL: https://www.digikey.com/product-detail/en/fairchild-on-semiconductor/S1BFL/S1BFLCT-ND/5305086; Junction Operating Temperature: -50C ~ 150C; Price: 0.38; Device Package: SOD-123F; Voltage DC Reverse (Vr): 100V; Current Rectified: 1A
footprint SOD123F
pins: 1, 2

## S1D-13-F
designator D?
DIODE GEN PURP 200V 1A SMA; Manufacturer: Diodes Incorporated; Type: Standard; Current Reverse Leakage @ Vr: 5uA @ 200V; Reverse Recovery Time (trr): 3us; Voltage Forward (Vf): 1.1V @ 1A; Part Number: S1D-13-F; PartId: 16317; Supplier 1: Digi-Key; Supplier Part Number 1: S1D-FDITR-ND; ComponentLink1Description: Datasheet; ComponentLink1URL: http://www.diodes.com/_files/datasheets/ds16003.pdf; ComponentLink2Description: Digi-Key Listing; ComponentLink2URL: https://www.digikey.com/product-detail/en/diodes-incorporated/S1D-13-F/S1D-FDITR-ND/814414; Junction Operating Temperature: -65C ~ 150C; Price: 0.04; Device Package: DO-214AC, SMA; Voltage DC Reverse (Vr): 200V; Current Rectified: 1A
footprint DO214AC SMA
pins: 1, 2

## S1DB-13-F
designator D?
DIODE GEN PURP 200V 1A SMB; Manufacturer: Diodes Incorporated; Type: Standard; Current Reverse Leakage @ Vr: 5uA @ 200V; Reverse Recovery Time (trr): 3us; Voltage Forward (Vf): 1.1V @ 1A; Part Number: S1DB-13-F; PartId: 16269; Supplier 1: Digi-Key; Supplier Part Number 1: S1DB-FDITR-ND; ComponentLink1Description: Datasheet; ComponentLink1URL: http://www.diodes.com/_files/datasheets/ds16003.pdf; ComponentLink2Description: Digi-Key Listing; ComponentLink2URL: https://www.digikey.com/product-detail/en/diodes-incorporated/S1DB-13-F/S1DB-FDITR-ND/768791; Junction Operating Temperature: -65C ~ 150C; Price: 0.0644; Device Package: DO-214AA, SMB; Voltage DC Reverse (Vr): 200V; Current Rectified: 1A
footprint DO214AA SMB
pins: 1, 2

## S1DFL
designator D?
DIODE GP 200V 1A SOD123F; Manufacturer: Fairchild/ON Semiconductor; Type: Standard; Current Reverse Leakage @ Vr: 1uA @ 200V; Reverse Recovery Time (trr): 2us; Voltage Forward (Vf): 1.1V @ 1A; Part Number: S1DFL; PartId: 29265; Supplier 1: Digi-Key; Supplier Part Number 1: S1DFLCT-ND; ComponentLink1Description: Datasheet; ComponentLink1URL: https://www.fairchildsemi.com/datasheets/S1/S1AFL.pdf; ComponentLink2Description: Digi-Key Listing; ComponentLink2URL: https://www.digikey.com/product-detail/en/fairchild-on-semiconductor/S1DFL/S1DFLCT-ND/5305087; Junction Operating Temperature: -50C ~ 150C; Price: 0.38; Device Package: SOD-123F; Voltage DC Reverse (Vr): 200V; Current Rectified: 1A
footprint SOD123F
pins: 1, 2

## S1G
designator D?
DIODE GEN PURP 400V 1A SMA; Manufacturer: Fairchild Semiconductor; Type: Surface Mount; Current Reverse Leakage @ Vr: 1A @ 400V; Reverse Recovery Time (trr): 1.8us; Voltage Forward (Vf): 1.1V @ 1A; Part Number: S1G; PartId: 7116; Supplier 1: Digi-Key; Supplier Part Number 1: S1GFSTR-ND; ComponentLink1Description: Datasheet; ComponentLink1URL: http://www.fairchildsemi.com/datasheets/S1/S1A.pdf; ComponentLink2Description: Digi-Key Listing; ComponentLink2URL: http://www.digikey.ca/product-detail/en/S1G/S1GFSTR-ND/965464; Junction Operating Temperature: -55C ~ 150C; Price: 0.0481; Device Package: DO-214AC, SMA; Voltage DC Reverse (Vr): 400V; Current Rectified: 1A
footprint DO214AC SMA
pins: 1, 2

## S1G-13-F
designator D?
DIODE GEN PURP 400V 1A SMA; Manufacturer: Diodes Incorporated; Type: Standard; Current Reverse Leakage @ Vr: 5uA @ 400V; Reverse Recovery Time (trr): 3us; Voltage Forward (Vf): 1.1V @ 1A; Part Number: S1G-13-F; PartId: 16316; Supplier 1: Digi-Key; Supplier Part Number 1: S1G-FDITR-ND; ComponentLink1Description: Datasheet; ComponentLink1URL: http://www.diodes.com/_files/datasheets/ds16003.pdf; ComponentLink2Description: Digi-Key Listing; ComponentLink2URL: https://www.digikey.com/product-detail/en/diodes-incorporated/S1G-13-F/S1G-FDITR-ND/814416; Junction Operating Temperature: -65C ~ 150C; Price: 0.038; Device Package: DO-214AC, SMA; Voltage DC Reverse (Vr): 400V; Current Rectified: 1A
footprint DO214AC SMA
pins: 1, 2

## S1GB-13-F
designator D?
DIODE GEN PURP 400V 1A SMB; Manufacturer: Diodes Incorporated; Type: Standard; Current Reverse Leakage @ Vr: 5uA @ 400V; Reverse Recovery Time (trr): 3us; Voltage Forward (Vf): 1.1V @ 1A; Part Number: S1GB-13-F; PartId: 16238; Supplier 1: Digi-Key; Supplier Part Number 1: S1GB-FDITR-ND; ComponentLink1Description: Datasheet; ComponentLink1URL: http://www.diodes.com/_files/datasheets/ds16003.pdf; ComponentLink2Description: Digi-Key Listing; ComponentLink2URL: https://www.digikey.com/product-detail/en/diodes-incorporated/S1GB-13-F/S1GB-FDITR-ND/814409; Junction Operating Temperature: -65C ~ 150C; Price: 0.0575; Device Package: DO-214AA, SMB; Voltage DC Reverse (Vr): 400V; Current Rectified: 1A
footprint DO214AA SMB
pins: 1, 2

## S1GFL
designator D?
DIODE GP 400V 1A SOD123F; Manufacturer: Fairchild/ON Semiconductor; Type: Standard; Current Reverse Leakage @ Vr: 1uA @ 400V; Reverse Recovery Time (trr): 2us; Voltage Forward (Vf): 1.1V @ 1A; Part Number: S1GFL; PartId: 29322; Supplier 1: Digi-Key; Supplier Part Number 1: S1GFLCT-ND; ComponentLink1Description: Datasheet; ComponentLink1URL: https://www.fairchildsemi.com/datasheets/S1/S1AFL.pdf; ComponentLink2Description: Digi-Key Listing; ComponentLink2URL: https://www.digikey.com/product-detail/en/fairchild-on-semiconductor/S1GFL/S1GFLCT-ND/5305088; Junction Operating Temperature: -50C ~ 150C; Price: 0.38; Device Package: SOD-123F; Voltage DC Reverse (Vr): 400V; Current Rectified: 1A
footprint SOD123F
pins: 1, 2

## S1GT-04LC-F
designator D?
DIODE GEN PURP 400V 1A SMB; Manufacturer: Diodes Incorporated; Type: Standard; Current Reverse Leakage @ Vr: 5uA @ 400V; Voltage Forward (Vf): 1.1V @ 1A; Part Number: S1GT-04LC-F; PartId: 16309; Supplier 1: Digi-Key; Supplier Part Number 1: S1GT-04LC-FDITR-ND; ComponentLink1Description: Datasheet; ComponentLink2Description: Digi-Key Listing; ComponentLink2URL: https://www.digikey.com/product-detail/en/diodes-incorporated/S1GT-04LC-F/S1GT-04LC-FDITR-ND/5419254; Price: 0.093; Device Package: DO-214AA, SMB; Voltage DC Reverse (Vr): 400V; Current Rectified: 1A
footprint DO214AA SMB
pins: 1, 2

## S1J-13-F
designator D?
DIODE GEN PURP 600V 1A SMA; Manufacturer: Diodes Incorporated; Type: Surface Mount; Current Reverse Leakage @ Vr: 5uA @ 600V; Reverse Recovery Time (trr): 3us; Voltage Forward (Vf): 1.1V @ 1A; Part Number: S1J-13-F; PartId: 7119; Supplier 1: Digi-Key; Supplier Part Number 1: S1J-FDITR-ND; ComponentLink1Description: Datasheet; ComponentLink1URL: http://www.diodes.com/_files/datasheets/ds16003.pdf; ComponentLink2Description: Digi-Key Listing; ComponentLink2URL: http://www.digikey.ca/product-detail/en/S1J-13-F/S1J-FDITR-ND/725027; Junction Operating Temperature: -65C ~ 150C; Price: 0.0516; Device Package: DO-214AC, SMA; Voltage DC Reverse (Vr): 600V; Current Rectified: 1A
footprint DO214AC SMA
pins: 1, 2

## S1JB-13-F
designator D?
DIODE GEN PURP 600V 1A SMB; Manufacturer: Diodes Incorporated; Type: Standard; Current Reverse Leakage @ Vr: 5uA @ 600V; Reverse Recovery Time (trr): 3us; Voltage Forward (Vf): 1.1V @ 1A; Part Number: S1JB-13-F; PartId: 16267; Supplier 1: Digi-Key; Supplier Part Number 1: S1JB-FDITR-ND; ComponentLink1Description: Datasheet; ComponentLink1URL: http://www.diodes.com/_files/datasheets/ds16003.pdf; ComponentLink2Description: Digi-Key Listing; ComponentLink2URL: https://www.digikey.com/product-detail/en/diodes-incorporated/S1JB-13-F/S1JB-FDITR-ND/806552; Junction Operating Temperature: -65C ~ 150C; Price: 0.06; Device Package: DO-214AA, SMB; Voltage DC Reverse (Vr): 600V; Current Rectified: 1A
footprint DO214AA SMB
pins: 1, 2

## S1JFL
designator D?
DIODE GP 600V 1A SOD123F; Manufacturer: Fairchild/ON Semiconductor; Type: Standard; Current Reverse Leakage @ Vr: 1uA @ 600V; Reverse Recovery Time (trr): 2us; Voltage Forward (Vf): 1.1V @ 1A; Part Number: S1JFL; PartId: 29263; Supplier 1: Digi-Key; Supplier Part Number 1: S1JFLCT-ND; ComponentLink1Description: Datasheet; ComponentLink1URL: https://www.fairchildsemi.com/datasheets/S1/S1AFL.pdf; ComponentLink2Description: Digi-Key Listing; ComponentLink2URL: https://www.digikey.com/product-detail/en/fairchild-on-semiconductor/S1JFL/S1JFLCT-ND/5305089; Junction Operating Temperature: -50C ~ 150C; Price: 0.38; Device Package: SOD-123F; Voltage DC Reverse (Vr): 600V; Current Rectified: 1A
footprint SOD123F
pins: 1, 2